# EAGLE library part A6279EETTR-T (library Allegro_By_element14_Batch_1)
LED Drivers with Open LED Detection
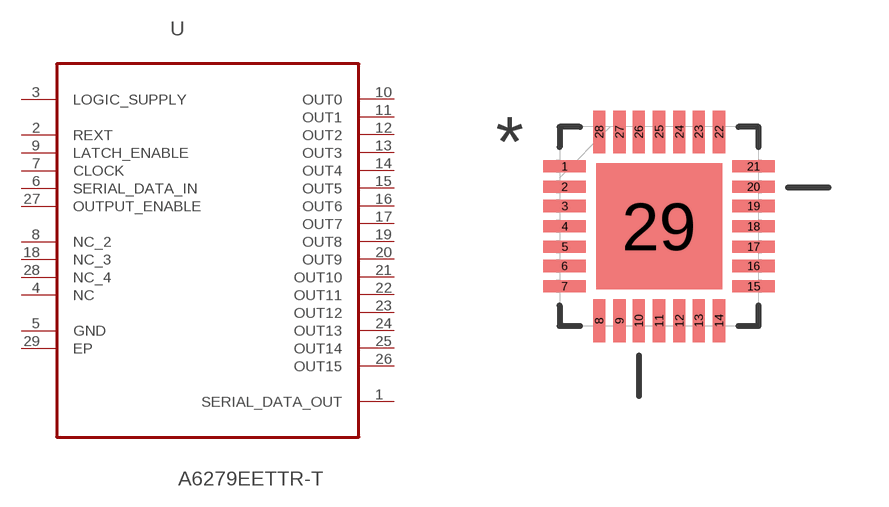
[diagram p21: symbol with the pads of QFN50P500X500X100-29N; footprint QFN50P500X500X100-29N]

Designator prefix U

## A6279EETTR-T (MPN: A6279EETTR-T; OC_FARNELL: 1812333; OC_NEWARK: 19M5477; PACKAGE: QFN-28; SUPPLIER: Allegro)  [QFN50P500X500X100-29N]
1  SERIAL_DATA_OUT  out
2  REXT  in
3  LOGIC_SUPPLY  pwr
4  NC  nc
5  GND  pas
6  SERIAL_DATA_IN  in
7  CLOCK  in
8  NC_2  nc
9  LATCH_ENABLE  in
10  OUT0  out
11  OUT1  out
12  OUT2  out
13  OUT3  out
14  OUT4  out
15  OUT5  out
16  OUT6  out
17  OUT7  out
18  NC_3  nc
19  OUT8  out
20  OUT9  out
21  OUT10  out
22  OUT11  out
23  OUT12  out
24  OUT13  out
25  OUT14  out
26  OUT15  out
27  OUTPUT_ENABLE  in
28  NC_4  nc
29  EP  pas

## Footprint QFN50P500X500X100-29N (pad centres in mm)
smd 1.067 x 0.305: 1 -2.362,1.499; 2 -2.362,0.991; 3 -2.362,0.508; 4 -2.362,0; 5 -2.362,-0.508; 6 -2.362,-0.991; 7 -2.362,-1.499; 15 2.362,-1.499; 16 2.362,-0.991; 17 2.362,-0.508; 18 2.362,0; 19 2.362,0.508; 20 2.362,0.991; 21 2.362,1.499
smd 0.305 x 1.067: 8 -1.499,-2.362; 9 -0.991,-2.362; 10 -0.508,-2.362; 11 0,-2.362; 12 0.508,-2.362; 13 0.991,-2.362; 14 1.499,-2.362; 22 1.499,2.362; 23 0.991,2.362; 24 0.508,2.362; 25 0,2.362; 26 -0.508,2.362; 27 -0.991,2.362; 28 -1.499,2.362
smd 3.15 x 3.15: 29 0,0